# EAGLE library part ADUM4160 (library Fugu_LSI)
Full/Low 5kV USB Digital Isolatar
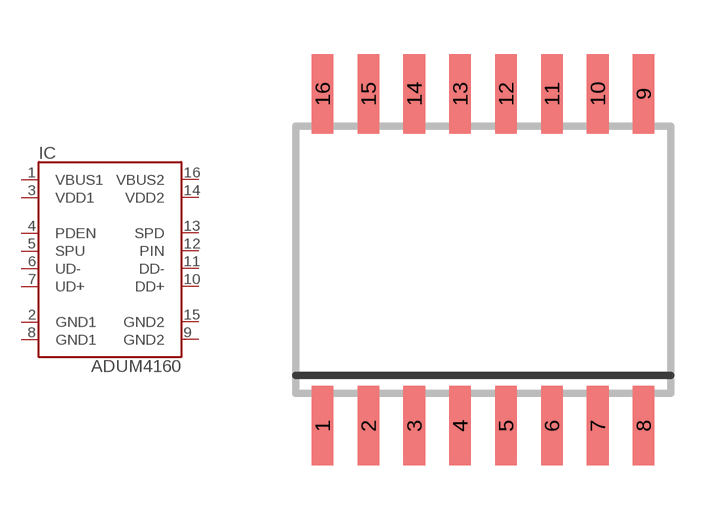
[diagram p21: symbol with the pads of SO16DW; footprint SO16DW]

Designator prefix IC

## ADUM4160  [SO16DW]
1  VBUS1
2  GND1
3  VDD1
4  PDEN
5  SPU
6  UD-
7  UD+
8  GND1
9  GND2
10  DD+
11  DD-
12  PIN
13  SPD
14  VDD2
15  GND2
16  VBUS2

## Footprint SO16DW (pad centres in mm)
SOIC 16 DW SUFFIX PLASTIC SOIC PACKAGE CASE 751G-03 ISSUE B http://www.onsemi.com/pub/Collateral/MC14536B-D.PDF
smd 0.6 x 2.2: 1 -4.445,-4.6; 2 -3.175,-4.6; 3 -1.905,-4.6; 4 -0.635,-4.6; 5 0.635,-4.6; 6 1.905,-4.6; 7 3.175,-4.6; 8 4.445,-4.6; 9 4.445,4.6; 10 3.175,4.6; 11 1.905,4.6; 12 0.635,4.6; 13 -0.635,4.6; 14 -1.905,4.6; 15 -3.175,4.6; 16 -4.445,4.6